# EAGLE library part LM3405A (library myLib)
1-A Constant Current Buck LED Driver With Internal Compensation APPLICATIONS: LED Drivers Constant Current Sources Industrial Lighting LED Flashlights LED Lightbulbs Source: http://www.ti.com/lit/ds/symlink/lm3405a.pdf
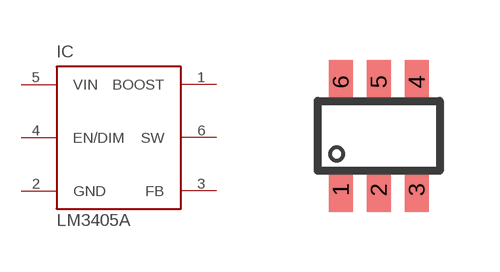
[diagram p0: symbol with the pads of DDC6_SOT; footprint DDC6_SOT]

Designator prefix IC

## LM3405A  [DDC6_SOT]
1  BOOST
2  GND
3  FB
4  EN/DIM
5  VIN
6  SW

## Footprint DDC6_SOT (pad centres in mm)
DDC Source: http://www.ti.com/lit/ds/symlink/lm3405a.pdf
smd 0.6 x 1.1: 1 -0.95,-1.35; 2 0,-1.35; 3 0.95,-1.35; 4 0.95,1.35; 5 0,1.35; 6 -0.95,1.35